# Altium schematic symbol library Waterboy_Library.SchLib: 1 symbol
Pins are listed as number, name and electrical type; pins without a type are passive.

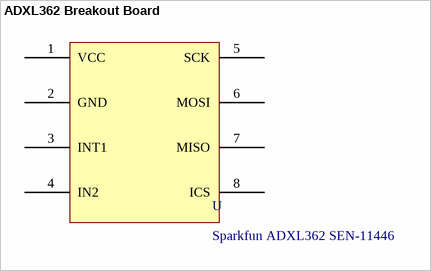
[diagram p0: symbol ADXL362 Breakout Board]

## ADXL362 Breakout Board
designator U, comment Sparkfun ADXL362 SEN-11446
ADXL362 Breakout Board
footprint ADXL362 Breakout Board
pins: 1 VCC, 2 GND, 3 INT1, 4 IN2, 5 SCK, 6 MOSI, 7 MISO, 8 ICS